# EAGLE library part SW-LC2259 (library _RoweTel)
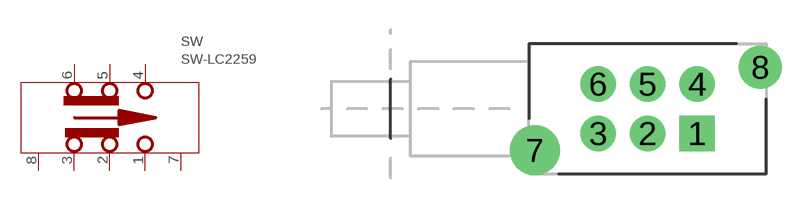
[diagram p71: symbol with the pads of SW-LC2259; footprint SW-LC2259]

Designator prefix SW

## SW-LC2259  [SW-LC2259]
1  1  pas
2  2  pas
3  3  pas
4  4  pas
5  5  pas
6  6  pas
7  7
8  8

## Footprint SW-LC2259 (pad centres in mm)
drill 1 pad 1.778 square: 1 2.5,-1.25
drill 1 pad 1.778: 2 0,-1.25; 3 -2.5,-1.25; 4 2.5,1.25; 5 0,1.25; 6 -2.5,1.25
drill 1.6 pad 2.54: 7 -5.7,-2.1
drill 1.4 pad 2.184: 8 5.7,2.1